# EAGLE library part CH340B (library ch340)
CH340B CH340B <https://raw.githubusercontent.com/Thore-Krug/ch340/master/datasheets/ch340-datasheet-englisch-rev2.pdf> The CH340B is a SOP16 USB to UART adapter, it supports 5V and 3V3 IO Voltage. No external oscillator is needed as the IC provides a Integrated one. Unlike other ICs of the CH340 family the CH340B offers pin for external reset. as well as a TNOW pin which indicates ongoing data transmission.
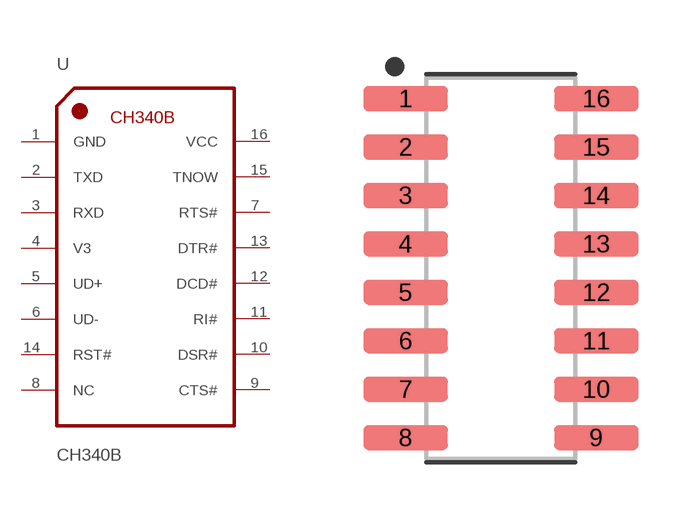
[diagram p6: symbol with the pads of SOIC127P600X180-16M; footprint SOIC127P600X180-16M]

Designator prefix U

## CH340B (MFG: WCH; MPN: CH340B; OC_LSCS: C81010)  [SOIC127P600X180-16M]
1  GND  pas
2  TXD  out
3  RXD  in
4  V3  pwr
5  UD+
6  UD-
7  RTS#  out
8  NC  nc
9  CTS#  in
10  DSR#  in
11  RI#  in
12  DCD#  in
13  DTR#  out
14  RST#  in
15  TNOW  out
16  VCC  pwr

## Footprint SOIC127P600X180-16M (pad centres in mm)
16-SOIC, 1.27 mm pitch, 6.00 mm span, 10.00 X 3.90 X 1.80 mm body 16-pin SOIC package with 1.27 mm pitch, 6.00 mm span with body size 10.00 X 3.90 X 1.80 mm
smd 2.216 x 0.662: 1 -2.498,4.445; 2 -2.498,3.175; 3 -2.498,1.905; 4 -2.498,0.635; 5 -2.498,-0.635; 6 -2.498,-1.905; 7 -2.498,-3.175; 8 -2.498,-4.445; 9 2.498,-4.445; 10 2.498,-3.175; 11 2.498,-1.905; 12 2.498,-0.635; 13 2.498,0.635; 14 2.498,1.905; 15 2.498,3.175; 16 2.498,4.445